# Altium footprint library Test_Point.PcbLib: 1 footprints
Each footprint in its own frame and in the unit in brackets; x right, y up, seen from the top. Pads: shape width x height; smd on the part's side, far side on the other; paste and mask are expansions set on the pad; w line width, h text height; cw(c..) or ccw(c..) is an arc to the next point about the centre after c.
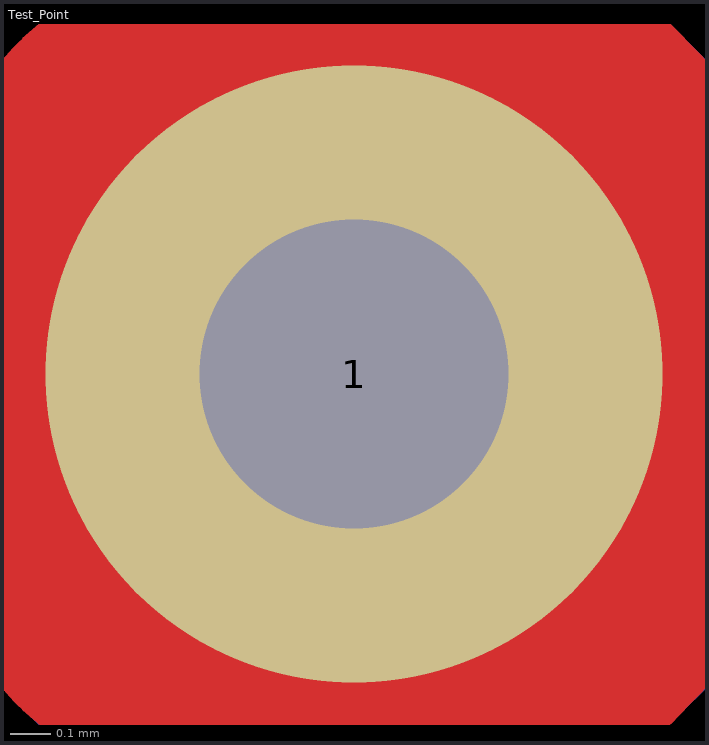
[diagram p0: the footprint, top view; thin cyan lines are the x and y axes]

## Test_Point [mil]
pads (1):
  round 60 hole 30: 1(0,0)
via 0,0 diameter 60 hole 28
Top Layer:
  circle w30: c0,0 r30.93
  lines w10: 0,-15 0,0
Bottom Layer:
  lines w30: 30.9,-0.22 cw(c0,0) 30.9,0
Top Solder:
  circle w60: c0,0 r29.15
Bottom Solder:
  circle w60: c0,0 r30.43
Multi-Layer:
  circle w60: c0,0 r30